# Altium footprint library Connectors.PcbLib: 202 footprints (part 11 of 13)
Each footprint in its own frame and in the unit in brackets; x right, y up, seen from the top. Pads: shape width x height; smd on the part's side, far side on the other; paste and mask are expansions set on the pad; w line width, h text height; cw(c..) or ccw(c..) is an arc to the next point about the centre after c.
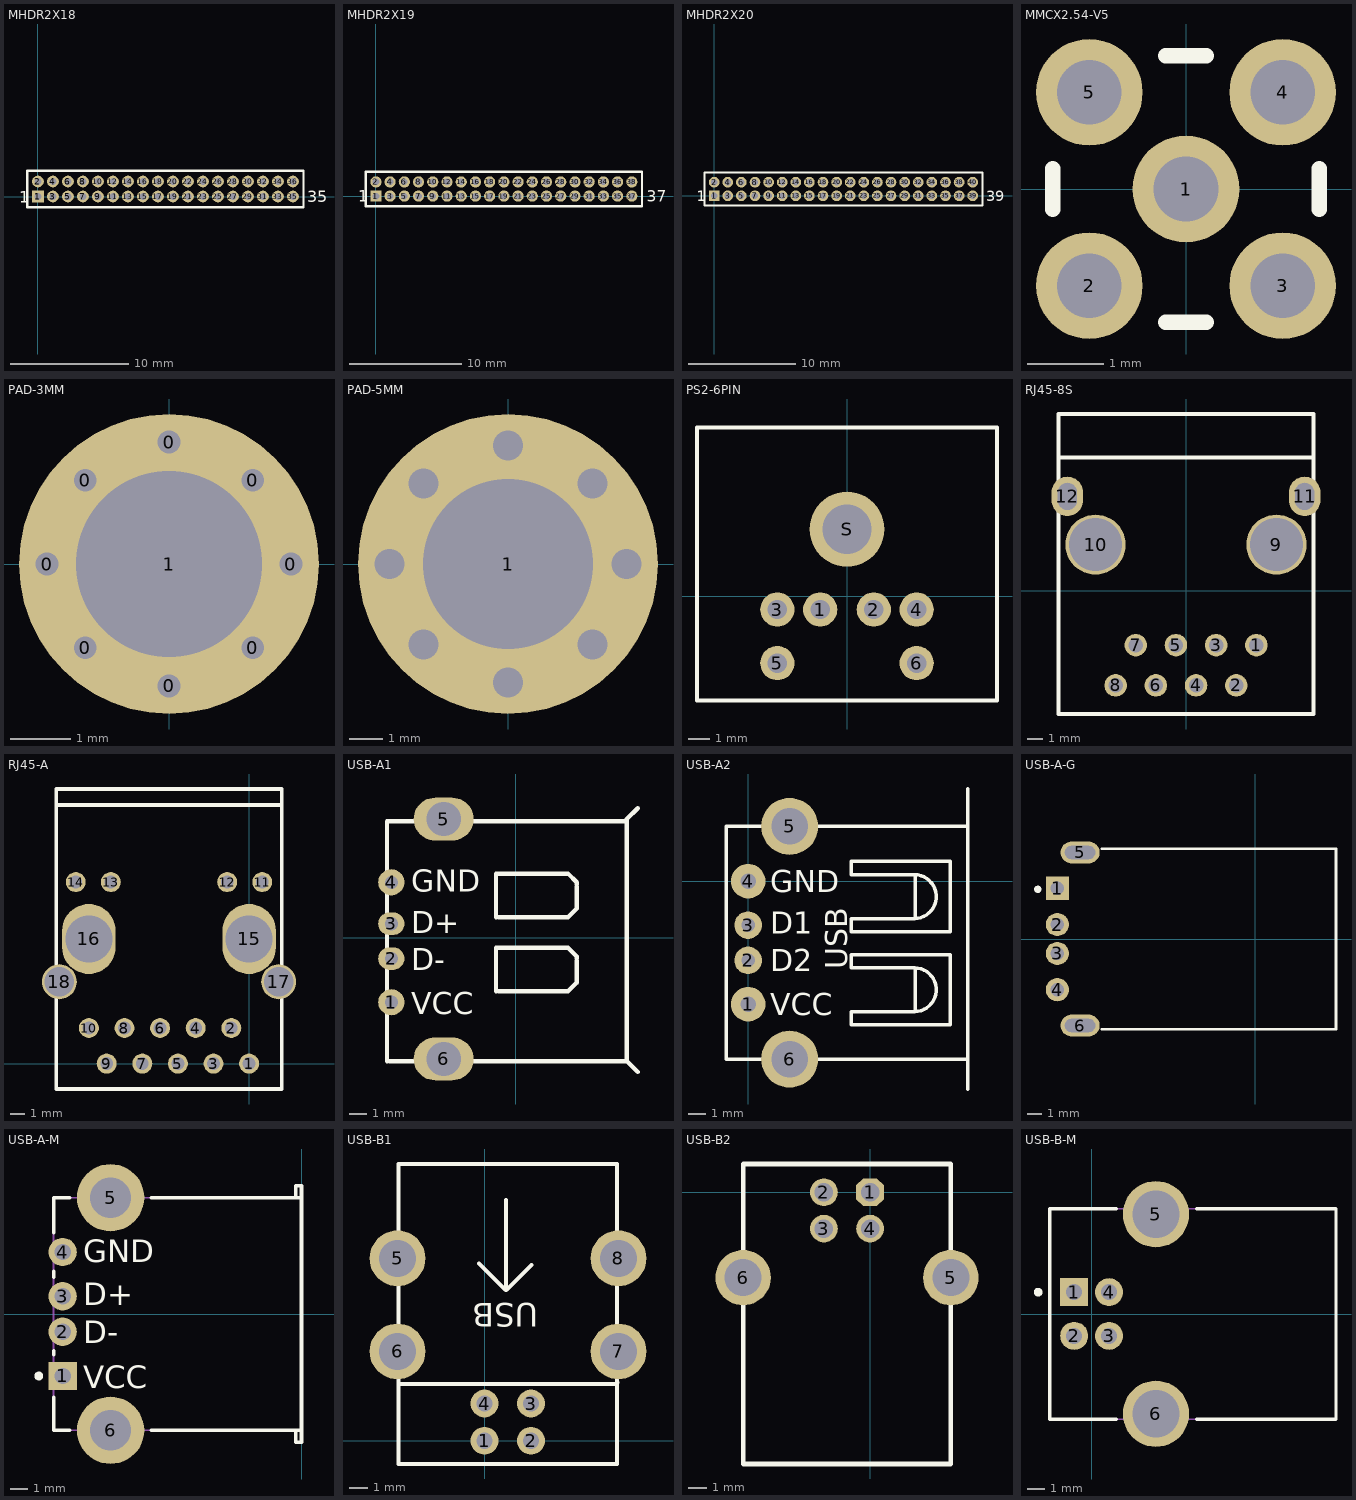
[diagram p10: the footprints below, top view; thin cyan lines are the x and y axes]

## MHDR2X18 [mm] "Connector; Header; 18x2 Position"
pads (36):
  rect 1x1 hole 0.6: 1(0,0)
  round 1 hole 0.6: 2(0,1.27) 3(1.27,0) 4(1.27,1.27) 5(2.54,0) 6(2.54,1.27) 7(3.81,0) 8(3.81,1.27) 9(5.08,0) 10(5.08,1.27) 11(6.35,0) 12(6.35,1.27) 13(7.62,0) 14(7.62,1.27) 15(8.89,0) 16(8.89,1.27) 17(10.16,0) 18(10.16,1.27) 19(11.43,0) 20(11.43,1.27) 21(12.7,0) 22(12.7,1.27) 23(13.97,0) 24(13.97,1.27) 25(15.24,0) 26(15.24,1.27) 27(16.51,0) 28(16.51,1.27) 29(17.78,0) 30(17.78,1.27) 31(19.05,0) 32(19.05,1.27) 33(20.32,0) 34(20.32,1.27) 35(21.59,0) 36(21.59,1.27)
Top Overlay:
  lines w0.2: -0.9,-0.9 22.49,-0.9 22.49,2.17 -0.9,2.17 -0.9,-0.9
  text "1" at -1.6,-0.508 h1
  text "35" at 22.8,-0.501 h1

## MHDR2X19 [mm] "Connector; Header; 19x2 Position"
pads (38):
  rect 1x1 hole 0.6: 1(0,0)
  round 1 hole 0.6: 2(0,1.27) 3(1.27,0) 4(1.27,1.27) 5(2.54,0) 6(2.54,1.27) 7(3.81,0) 8(3.81,1.27) 9(5.08,0) 10(5.08,1.27) 11(6.35,0) 12(6.35,1.27) 13(7.62,0) 14(7.62,1.27) 15(8.89,0) 16(8.89,1.27) 17(10.16,0) 18(10.16,1.27) 19(11.43,0) 20(11.43,1.27) 21(12.7,0) 22(12.7,1.27) 23(13.97,0) 24(13.97,1.27) 25(15.24,0) 26(15.24,1.27) 27(16.51,0) 28(16.51,1.27) 29(17.78,0) 30(17.78,1.27) 31(19.05,0) 32(19.05,1.27) 33(20.32,0) 34(20.32,1.27) 35(21.59,0) 36(21.59,1.27) 37(22.86,0) 38(22.86,1.27)
Top Overlay:
  lines w0.2: -0.9,-0.9 -0.9,2.17 23.76,2.17 23.76,-0.9 -0.9,-0.9
  text "37" at 24.2,-0.508 h1
  text "1" at -1.6,-0.508 h1

## MHDR2X20 [mm] "Connector; Header; 20x2 Position"
pads (40):
  rect 1x1 hole 0.6: 1(0,0)
  round 1 hole 0.6: 2(0,1.27) 3(1.27,0) 4(1.27,1.27) 5(2.54,0) 6(2.54,1.27) 7(3.81,0) 8(3.81,1.27) 9(5.08,0) 10(5.08,1.27) 11(6.35,0) 12(6.35,1.27) 13(7.62,0) 14(7.62,1.27) 15(8.89,0) 16(8.89,1.27) 17(10.16,0) 18(10.16,1.27) 19(11.43,0) 20(11.43,1.27) 21(12.7,0) 22(12.7,1.27) 23(13.97,0) 24(13.97,1.27) 25(15.24,0) 26(15.24,1.27) 27(16.51,0) 28(16.51,1.27) 29(17.78,0) 30(17.78,1.27) 31(19.05,0) 32(19.05,1.27) 33(20.32,0) 34(20.32,1.27) 35(21.59,0) 36(21.59,1.27) 37(22.86,0) 38(22.86,1.27) 39(24.13,0) 40(24.13,1.27)
Top Overlay:
  lines w0.2: -0.9,-0.9 -0.9,2.17 25.03,2.17 25.03,-0.9 -0.9,-0.9
  text "39" at 25.4,-0.508 h1
  text "1" at -1.6,-0.508 h1

## MMCX2.54-V5 [mm] "Connector; RF Coaxial, MMCX, Thru-Hole; 5 Position; Vertical"
height 4.45
pads (5):
  round 1.4 hole 0.85: 1(0,0) 2(-1.27,-1.27) 3(1.27,-1.27) 4(1.27,1.27) 5(-1.27,1.27)
Top Overlay:
  lines w0.2: -1.75,-0.27 -1.75,0.27 ; -0.27,-1.75 0.27,-1.75 ; -0.27,1.75 0.27,1.75 ; 1.75,-0.27 1.75,0.27

## PAD-3MM [mil]
pads (9):
  round 20 hole 15: 0(-80,0) 0(-55,-55) 0(-55,55) 0(0,-80) 0(0,80) 0(55,-55) 0(55,55) 0(80,0)
  round 196.85 hole 122.05: 1(0,0)

## PAD-5MM [mm]
pads (1):
  round 9 hole 5.1: 1(0,0)
via -3.556,0 diameter 1.5 hole 0.9
via 0,-3.556 diameter 1.5 hole 0.9
via 3.556,0 diameter 1.5 hole 0.9
via 0,3.556 diameter 1.5 hole 0.9
via 2.54,2.413 diameter 1.5 hole 0.9
via -2.54,2.413 diameter 1.5 hole 0.9
via -2.54,-2.413 diameter 1.5 hole 0.9
via 2.54,-2.413 diameter 1.5 hole 0.9

## PS2-6PIN [mm] "PS2 Socket, 6 Pin, Through Hole"
pads (7):
  round 1.6 hole 0.9: 1(-1.25,-0.625) 2(1.25,-0.625) 3(-3.25,-0.625) 4(3.25,-0.625) 5(-3.25,-3.125) 6(3.25,-3.125)
  round 3.5 hole 2.3: S(0,3.125)
Top Overlay:
  lines w0.2: -7,-4.875 -7,7.875 7,7.875 7,-4.875 -7,-4.875

## RJ45-8S [mil]
pads (12):
  round 56 hole 36: 1(175,-135) 2(125,-235) 3(75,-135) 4(25,-235) 5(-25,-135) 6(-75,-235) 7(-125,-135) 8(-175,-235)
  round 149.61 hole 131.89: 9(225,115) 10(-225,115)
  oval 78.74x98.42 hole 66.93 slot 47.24 at 0 deg: 11(295,235) 12(-295,235)
Top Overlay:
  lines w10: -316.93,331.26 316.93,331.26 ; -316.93,-306.26 -316.93,440 316.93,440 316.93,-306.26 -316.93,-306.26

## RJ45-A [mil]
pads (18):
  round 56 hole 36: 1(0,0) 2(-50,100) 3(-100,0) 4(-150,100) 5(-200,0) 6(-250,100) 7(-300,0) 8(-350,100) 9(-400,0) 10(-450,100) 11(36.81,509.84) 12(-61.61,509.84) 13(-388.39,509.84) 14(-486.81,509.84)
  oval 150x196.85 hole 131.89: 15(0,350) 16(-450,350)
  round 98.42 hole 82.68: 17(83.07,229.92) 18(-533.07,229.92)
Top Overlay:
  lines w10: -541.93,726.26 91.93,726.26 ; -541.93,-71.26 -541.93,771.26 91.93,771.26 91.93,-71.26 -541.93,-71.26

## USB-A1 [mm]
pads (6):
  round 1.524 hole 0.762: 1(-7.255,-3.757) 4(-7.255,3.228)
  oval 1.524x1.324 hole 0.762: 2(-7.255,-1.217) 3(-7.255,0.815)
  oval 3.5x2.5 hole 2: 5(-4.207,6.911) 6(-4.207,-7.059)
Top Overlay:
  lines w0.254: -7.509,-7.186 -7.509,6.784 6.461,6.784 ; -7.382,-7.186 6.461,-7.186 ; -1.159,-3.122 -1.159,-0.582 3.032,-0.582 3.54,-1.09 3.54,-1.217 ; -1.159,1.196 -1.159,3.736 3.032,3.736 3.54,3.228 3.54,3.101 ; -1.032,-3.122 3.032,-3.122 3.54,-2.614 3.54,-1.344 ; -1.032,1.196 3.032,1.196 3.54,1.704 3.54,2.974 ; 7.096,-7.821 6.461,-7.186 ; 7.096,7.546 6.461,6.911 6.461,6.784 ; 6.461,-7.186 6.461,6.784
  text "GND" at -6.096,2.667 h1.27
  text "D+" at -6.096,0.254 h1.27
  text "D-" at -6.096,-1.905 h1.27
  text "VCC" at -6.096,-4.445 h1.27

## USB-A2 [mil]
pads (6):
  round 78.74 hole 35.43: 1(0,-280) 4(0,0)
  round 62.99 hole 31.5: 2(0,-180) 3(0,-100)
  round 129.92 hole 82.68: 5(94.49,125) 6(94.49,-405)
Top Overlay:
  lines w8: 380,-295 380,-199 ; 380,-83 380,13 ; 500,-473 500,210 ; 500,-405 -50,-405 -50,125 500,125 ; 235,-327 235,-297 378.79,-297 ccw(c378.26,-247) 378.79,-196.99 235,-197 235,-167 460,-167 460,-327 235,-327 ; 235,-115 235,-85 378.79,-85 ccw(c378.26,-34.99) 378.79,15.01 235,15 235,45 460,45 460,-115 235,-115
  text "USB" at 225,-200 h50
  text "VCC" at 50,-305 h50
  text "D2" at 50,-205 h50
  text "D1" at 50,-120 h50
  text "GND" at 50,-25 h50

## USB-A-G [mm] "Connector; USB1.1, Series A, Reverse Type, Thru-Hole; 4 Position; Right Angle"
height 6.5
pads (6):
  rect 1.6x1.6 hole 0.92: 1(-13.635,3.5)
  round 1.6 hole 0.92: 2(-13.635,1) 3(-13.635,-1) 4(-13.635,-3.5)
  oval 2.7x1.5 hole 0.9 slot 2.1 at 0 deg: 5(-12.065,5.969) 6(-12.065,-5.969)
Top Overlay:
  circle w0.25: c-14.984,3.429 r0.125
  lines w0.2: -10.56,-6.223 5.588,-6.223 5.588,6.223 -10.56,6.223

## USB-A-M [mm] "Connector; USB1.1, Type A, Thru-Hole; 4 Position; Right Angle"
height 7.01
pads (6):
  rect 1.6x1.6 hole 0.92: 1(-13.49,-3.5)
  round 1.6 hole 0.92: 2(-13.49,-1) 3(-13.49,1) 4(-13.49,3.5)
  round 3.8 hole 2.3: 5(-10.78,6.57) 6(-10.78,-6.57)
Top Overlay:
  circle w0.25: c-14.84,-3.5 r0.125
  lines w0.2: -14,-4.7 -14,-6.565 -13.08,-6.565 ; -14,-2.3 -14,-2.09 ; -14,2.09 -14,2.41 ; -14,4.59 -14,6.565 -13.08,6.565 ; -8.48,-6.565 0,-6.565 ; -8.48,6.565 0,6.565 ; -0.32,-6.565 -0.32,-7.25 0,-7.25 0,-6.565 ; -0.32,6.565 -0.32,7.25 0,7.25 0,6.565 ; 0,-6.565 0,6.565
  text "GND" at -12.319,2.921 h1.27
  text "D+" at -12.319,0.508 h1.27
  text "D-" at -12.319,-1.651 h1.27
  text "VCC" at -12.319,-4.191 h1.27
Mechanical 13:
  lines w0.1: -14,-6.565 -0.32,-6.565 -0.32,-7.25 0,-7.25 0,7.25 -0.32,7.25 -0.32,6.565 -14,6.565 -14,-6.565

## USB-B1 [mil]
pads (8):
  round 60 hole 35: 1(0,0) 2(100,0) 3(100,80) 4(0,80)
  round 120 hole 80: 5(-187,392) 6(-187,192) 7(288,192) 8(288,392)
Top Overlay:
  lines w8: -185,122 285,122 286,126 ; -12,381 44,325 ; 46,324 46,518 ; 47,324 101,378 ; -185,-50 285,-50 285,595 -185,595 -185,-50
  text "USB" at 115,296 h50

## USB-B2 [mil]
pads (6):
  oct 60x60 hole 40: 1(0,0)
  round 60 hole 40: 2(-100,0) 3(-100,-78.74) 4(0,-78.74)
  round 120 hole 80: 5(175,-185.04) 6(-275,-185.04)
Top Overlay:
  lines w10: -275,-588.74 175,-588.74 175,61.26 -275,61.26 -275,-588.74

## USB-B-M [mm] "Connector; USB1.1, Type B, Thru-Hole; 4 Position; Right Angle"
height 11.1
pads (6):
  rect 1.6x1.6 hole 0.92: 1(-1,1.25)
  round 1.6 hole 0.92: 2(-1,-1.25) 3(1,-1.25) 4(1,1.25)
  round 3.8 hole 2.7: 5(3.683,5.715) 6(3.683,-5.715)
Top Overlay:
  circle w0.25: c-3.06,1.25 r0.125
  lines w0.2: 1.41,-6.02 -2.41,-6.02 -2.41,6.02 1.41,6.02 ; 6.01,-6.02 13.99,-6.02 13.99,6.02 6.01,6.02
Mechanical 13:
  lines w0.1: -2.41,-6.02 13.99,-6.02 13.99,6.02 -2.41,6.02 -2.41,-6.02